# Altium schematic symbol library ASEM.SchLib: 1 symbol
Pins are listed as number, name and electrical type; pins without a type are passive.

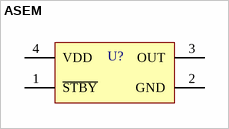
[diagram p0: symbol ASEM]

## ASEM
designator U?  (value not drawn)
pins: 1 ~{STBY} (power), 2 GND (power), 3 OUT (power), 4 VDD (power)